# EAGLE library part ADUM3160BRWZ-RL (library 3D_MIG_Controller)
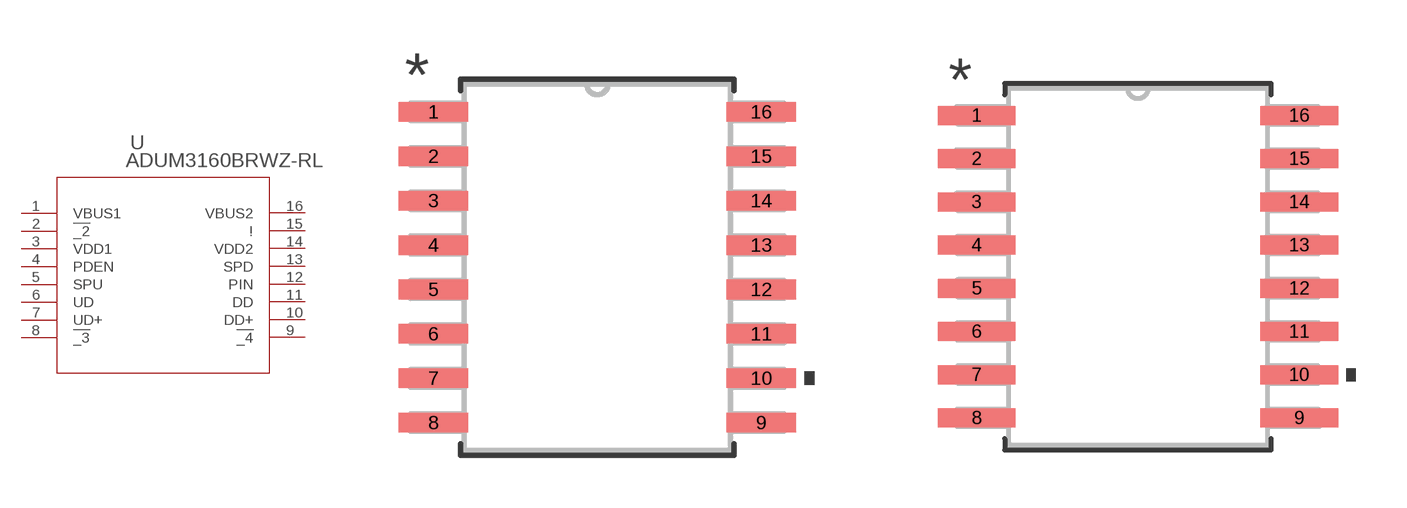
[diagram p43: symbol with the pads of RW_16_ADI; footprints RW_16_ADI, RW_16_ADI-M]

Designator prefix U

## ADUM3160BRWZ-RL (BUILT_BY: EMA_UL_Team; COPYRIGHT: Copyright (C) 2018 Accelerated Designs. All rights reserved; MANUFACTURER_PART_NUMBER: ADUM3160BRWZ-RL; SOURCELIBRARY: Analog_2019-03-08; VENDOR: Analog Devices Inc)  [RW_16_ADI]
1  VBUS1
2  !_2  pas
3  VDD1  pwr
4  PDEN  pas
5  SPU  pas
6  UD  pas
7  UD+  pas
8  !_3  pas
9  !_4  pas
10  DD+  pas
11  DD  pas
12  PIN  pas
13  SPD  pas
14  VDD2  pwr
15  !  pas
16  VBUS2

## ADUM3160BRWZ-RLRW_16_ADI-M (BUILT_BY: EMA_UL_Team; COPYRIGHT: Copyright (C) 2018 Accelerated Designs. All rights reserved; MANUFACTURER_PART_NUMBER: ADUM3160BRWZ-RL; SOURCELIBRARY: Analog_2019-03-08; VENDOR: Analog Devices Inc)  [RW_16_ADI-M]
Pads as for RW_16_ADI

## ADUM3160BRWZ-RLRW_16_ADI-L (BUILT_BY: EMA_UL_Team; COPYRIGHT: Copyright (C) 2018 Accelerated Designs. All rights reserved; MANUFACTURER_PART_NUMBER: ADUM3160BRWZ-RL; SOURCELIBRARY: Analog_2019-03-08; VENDOR: Analog Devices Inc)  [RW_16_ADI-L]
Pads as for RW_16_ADI

## Footprint RW_16_ADI (pad centres in mm)
smd 1.981 x 0.559: 1 -4.686,4.445; 2 -4.686,3.175; 3 -4.686,1.905; 4 -4.686,0.635; 5 -4.686,-0.635; 6 -4.686,-1.905; 7 -4.686,-3.175; 8 -4.686,-4.445; 9 4.686,-4.445; 10 4.686,-3.175; 11 4.686,-1.905; 12 4.686,-0.635; 13 4.686,0.635; 14 4.686,1.905; 15 4.686,3.175; 16 4.686,4.445

## Footprint RW_16_ADI-M (pad centres in mm)
smd 2.286 x 0.559: 1 -4.737,4.445; 2 -4.737,3.175; 3 -4.737,1.905; 4 -4.737,0.635; 5 -4.737,-0.635; 6 -4.737,-1.905; 7 -4.737,-3.175; 8 -4.737,-4.445; 9 4.737,-4.445; 10 4.737,-3.175; 11 4.737,-1.905; 12 4.737,-0.635; 13 4.737,0.635; 14 4.737,1.905; 15 4.737,3.175; 16 4.737,4.445

## Footprint RW_16_ADI-L (pad centres in mm)
smd 1.676 x 0.508: 1 -4.636,4.445; 2 -4.636,3.175; 3 -4.636,1.905; 4 -4.636,0.635; 5 -4.636,-0.635; 6 -4.636,-1.905; 7 -4.636,-3.175; 8 -4.636,-4.445; 9 4.636,-4.445; 10 4.636,-3.175; 11 4.636,-1.905; 12 4.636,-0.635; 13 4.636,0.635; 14 4.636,1.905; 15 4.636,3.175; 16 4.636,4.445